# Altium footprint library R15.PcbLib: 1 footprints
Each footprint in its own frame and in the unit in brackets; x right, y up, seen from the top. Pads: shape width x height; smd on the part's side, far side on the other; paste and mask are expansions set on the pad; w line width, h text height; cw(c..) or ccw(c..) is an arc to the next point about the centre after c.
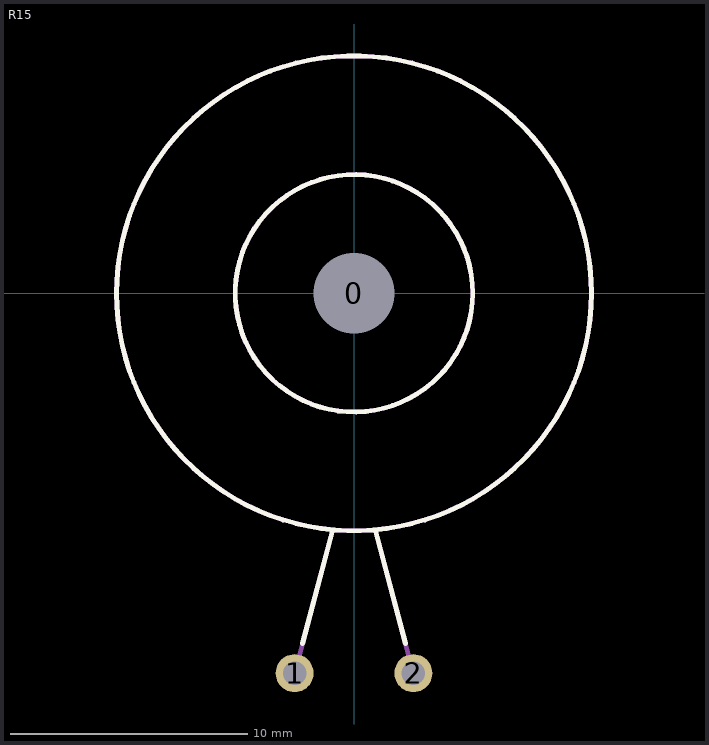
[diagram p0: the footprint, top view; thin cyan lines are the x and y axes]

## R15 [mm]
height 16
pads (3):
  round 1.6 hole 3.4 unplated: 0(0,0)
  round 1.6 hole 1: 1(-2.5,-16) 2(2.5,-16)
Top Overlay:
  circle w0.2: c0,0 r5
  circle w0.2: c0,0 r10
  lines w0.2: -2.169,-14.75 -0.902,-9.964 ; 0.902,-9.964 2.169,-14.75
Mechanical 7:
  circle w0.2: c0,0 r10
  circle w0.2: c0,0 r5
  lines w0.2: -2.5,-16 -0.902,-9.964 ; 0.902,-9.964 2.5,-16
3D body: height 14, standoff 0, extent -9.906,-9.906 9.906,9.906